# Altium integrated library Microchip Mixed Signal.IntLib: 1399 symbols (part 9 of 39)
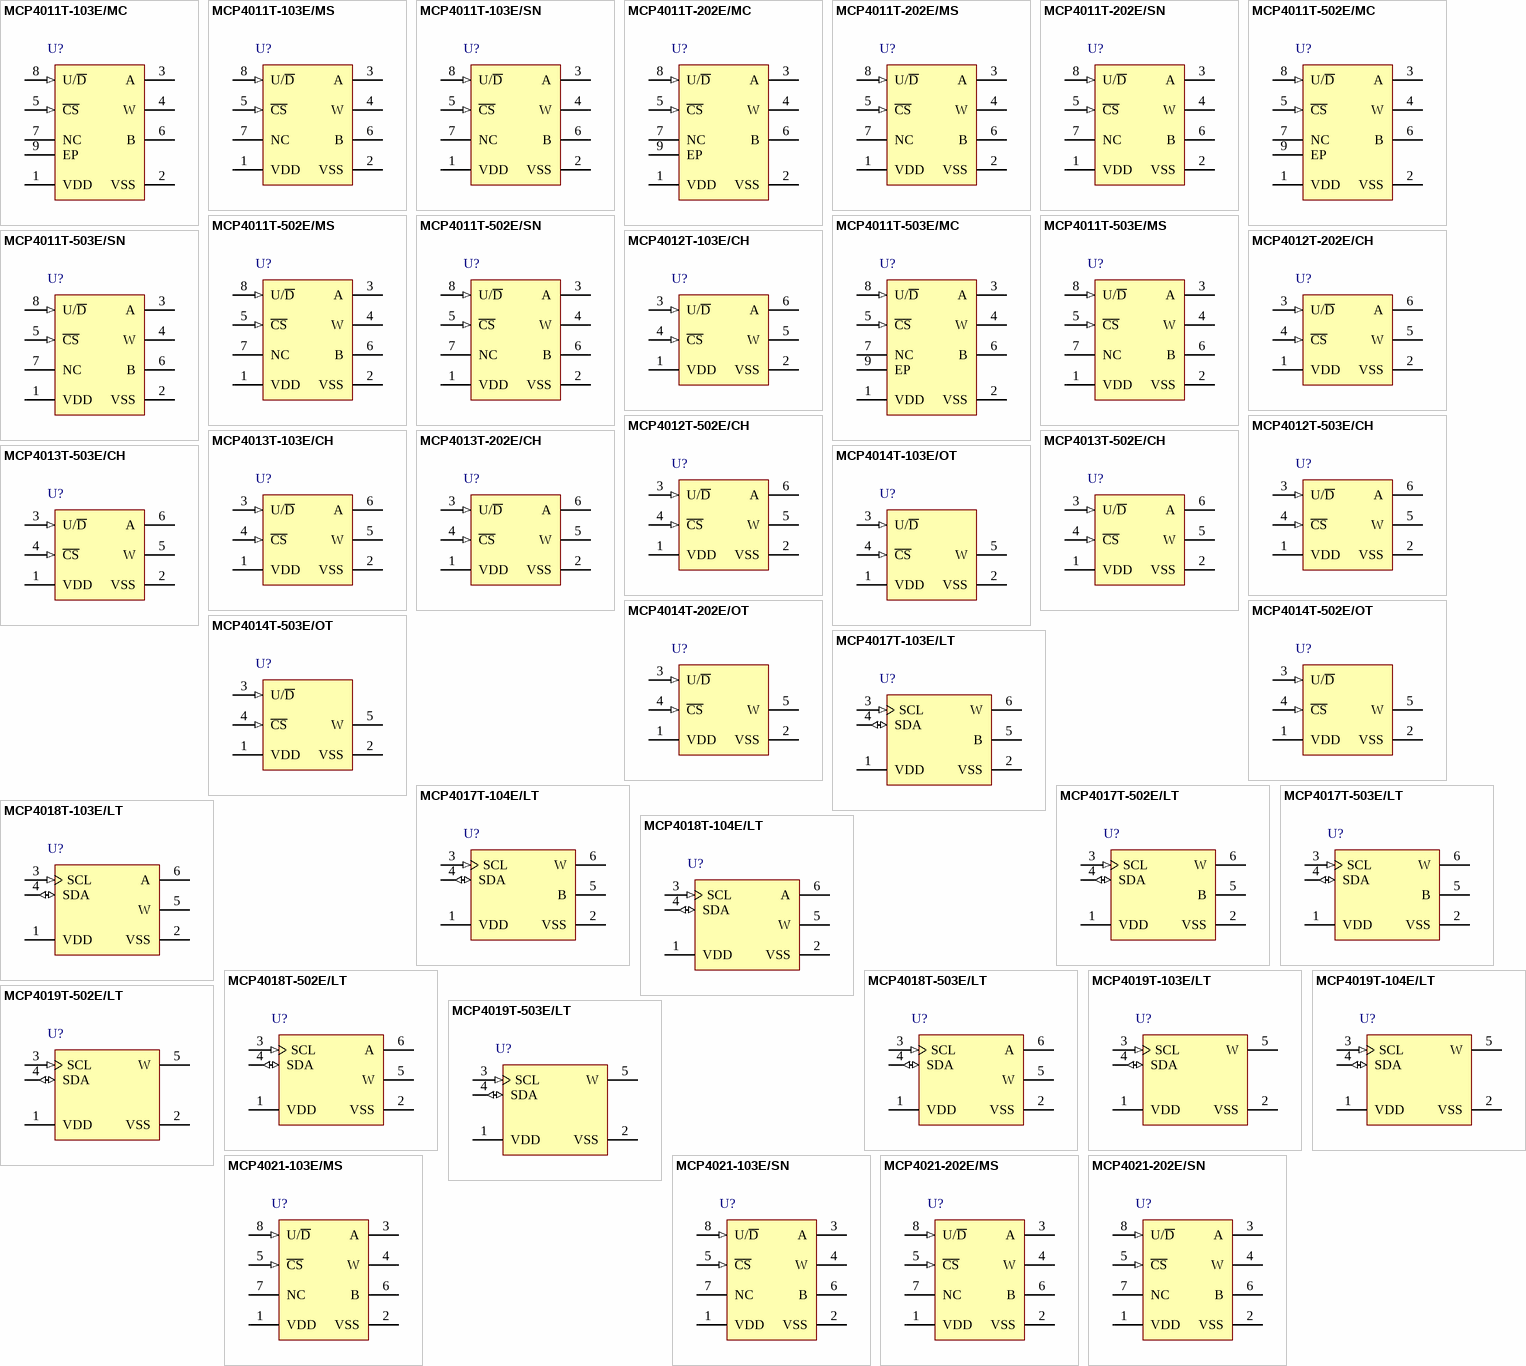
[diagram p52: symbols MCP4011T-103E/MC to MCP4021-202E/SN]

## MCP4012T-503E/CH
designator U?
Low-Cost 64-Step Volatile Digital POT, 6-Pin SOT-23, Extended Temperature, Tape and Reel; Manufacturer: Microchip; PartNumber: MCP4012T-503E/CH; DatasheetVersion: revC, Dec-2006; PackageVersion: revBB, Aug-2009; PackageReference: SOT-23-CH6; PackageDescription: 6-Lead Plastic Small Outline Transistor (CH) [SOT-23]; Supplier 1: Digi-Key; Supplier Part Number 1: MCP4012T-503E/CHTR-ND; Supplier 2: Digi-Key; Supplier Part Number 2: MCP4012T-503E/CHCT-ND; Supplier 3: Digi-Key; Supplier Part Number 3: MCP4012T-503E/CHDKR-ND; Supplier 4: Farnell; Supplier Part Number 4: 1834922; Supplier 5: Farnell; Supplier Part Number 5: 1834922RL; Supplier 6: Farnell; Supplier Part Number 6: 2133345; Supplier 7: Newark; Supplier Part Number 7: 84R6248; Supplier 8: Mouser; Supplier Part Number 8: 579-MCP4012T-503E/CH; Mounting Technology: Surface Mount; Code_IPC: SOT26A-6; ComponentLink1Description: Manufacturer URL; ComponentLink1URL: http://www.microchip.com/; ComponentLink2Description: Datasheet; ComponentLink2URL: http://ww1.microchip.com/downloads/en/DeviceDoc/21978c.pdf; ComponentLink3Description: Package Specification; ComponentLink3URL: http://www.microchip.com/stellent/groups/techpub_sg/documents/packagingspec/en012702.pdf
footprint SOT-23-CH6_N (SOT23, 6-Leads, Body 2.9x1.6mm, Pitch 0.95mm, Lead Span 2.7mm, IPC Medium Density)
footprint SOT-23-CH6_L (SOT23, 6-Leads, Body 2.9x1.6mm, Pitch 0.95mm, Lead Span 2.7mm, IPC High Density)
footprint SOT-23-CH6_M (SOT23, 6-Leads, Body 2.9x1.6mm, Pitch 0.95mm, Lead Span 2.7mm, IPC Low Density)
pins: 1 VDD (power), 2 VSS (power), 3 U/~{D} (in), 4 ~{CS} (in), 5 W, 6 A

## MCP4013T-103E/CH
designator U?
Low-Cost 64-Step Volatile Digital POT, 6-Pin SOT-23, Extended Temperature, Tape and Reel; Manufacturer: Microchip; PartNumber: MCP4013T-103E/CH; DatasheetVersion: revC, Dec-2006; PackageVersion: revBB, Aug-2009; PackageReference: SOT-23-CH6; PackageDescription: 6-Lead Plastic Small Outline Transistor (CH) [SOT-23]; Supplier 1: Digi-Key; Supplier Part Number 1: MCP4013T-103E/CHTR-ND; Supplier 2: Digi-Key; Supplier Part Number 2: MCP4013T-103E/CHCT-ND; Supplier 3: Digi-Key; Supplier Part Number 3: MCP4013T-103E/CHDKR-ND; Supplier 4: Farnell; Supplier Part Number 4: 1834923; Supplier 5: Farnell; Supplier Part Number 5: 1834923RL; Supplier 6: Newark; Supplier Part Number 6: 84R6249; Supplier 7: Mouser; Supplier Part Number 7: 579-MCP4013T-103E/CH; Mounting Technology: Surface Mount; Code_IPC: SOT26A-6; ComponentLink1Description: Manufacturer URL; ComponentLink1URL: http://www.microchip.com/; ComponentLink2Description: Datasheet; ComponentLink2URL: http://ww1.microchip.com/downloads/en/DeviceDoc/21978c.pdf; ComponentLink3Description: Package Specification; ComponentLink3URL: http://www.microchip.com/stellent/groups/techpub_sg/documents/packagingspec/en012702.pdf
footprint SOT-23-CH6_N (SOT23, 6-Leads, Body 2.9x1.6mm, Pitch 0.95mm, Lead Span 2.7mm, IPC Medium Density)
footprint SOT-23-CH6_L (SOT23, 6-Leads, Body 2.9x1.6mm, Pitch 0.95mm, Lead Span 2.7mm, IPC High Density)
footprint SOT-23-CH6_M (SOT23, 6-Leads, Body 2.9x1.6mm, Pitch 0.95mm, Lead Span 2.7mm, IPC Low Density)
pins: 1 VDD (power), 2 VSS (power), 3 U/~{D} (in), 4 ~{CS} (in), 5 W, 6 A

## MCP4013T-202E/CH
designator U?
Low-Cost 64-Step Volatile Digital POT, 6-Pin SOT-23, Extended Temperature, Tape and Reel; Manufacturer: Microchip; PartNumber: MCP4013T-202E/CH; DatasheetVersion: revC, Dec-2006; PackageVersion: revBB, Aug-2009; PackageReference: SOT-23-CH6; PackageDescription: 6-Lead Plastic Small Outline Transistor (CH) [SOT-23]; Supplier 1: Digi-Key; Supplier Part Number 1: MCP4013T-202E/CHTR-ND; Supplier 2: Digi-Key; Supplier Part Number 2: MCP4013T-202E/CHCT-ND; Supplier 3: Digi-Key; Supplier Part Number 3: MCP4013T-202E/CHDKR-ND; Supplier 4: Farnell; Supplier Part Number 4: 1834924; Supplier 5: Farnell; Supplier Part Number 5: 1834924RL; Supplier 6: Newark; Supplier Part Number 6: 84R6250; Supplier 7: Mouser; Supplier Part Number 7: 579-MCP4013T-202E/CH; Mounting Technology: Surface Mount; Code_IPC: SOT26A-6; ComponentLink1Description: Manufacturer URL; ComponentLink1URL: http://www.microchip.com/; ComponentLink2Description: Datasheet; ComponentLink2URL: http://ww1.microchip.com/downloads/en/DeviceDoc/21978c.pdf; ComponentLink3Description: Package Specification; ComponentLink3URL: http://www.microchip.com/stellent/groups/techpub_sg/documents/packagingspec/en012702.pdf
footprint SOT-23-CH6_N (SOT23, 6-Leads, Body 2.9x1.6mm, Pitch 0.95mm, Lead Span 2.7mm, IPC Medium Density)
footprint SOT-23-CH6_L (SOT23, 6-Leads, Body 2.9x1.6mm, Pitch 0.95mm, Lead Span 2.7mm, IPC High Density)
footprint SOT-23-CH6_M (SOT23, 6-Leads, Body 2.9x1.6mm, Pitch 0.95mm, Lead Span 2.7mm, IPC Low Density)
pins: 1 VDD (power), 2 VSS (power), 3 U/~{D} (in), 4 ~{CS} (in), 5 W, 6 A

## MCP4013T-502E/CH
designator U?
Low-Cost 64-Step Volatile Digital POT, 6-Pin SOT-23, Extended Temperature, Tape and Reel; Manufacturer: Microchip; PartNumber: MCP4013T-502E/CH; DatasheetVersion: revC, Dec-2006; PackageVersion: revBB, Aug-2009; PackageReference: SOT-23-CH6; PackageDescription: 6-Lead Plastic Small Outline Transistor (CH) [SOT-23]; Supplier 1: Digi-Key; Supplier Part Number 1: MCP4013T-502E/CHTR-ND; Supplier 2: Digi-Key; Supplier Part Number 2: MCP4013T-502E/CHCT-ND; Supplier 3: Digi-Key; Supplier Part Number 3: MCP4013T-502E/CHDKR-ND; Supplier 4: Farnell; Supplier Part Number 4: 1834925; Supplier 5: Farnell; Supplier Part Number 5: 1834925RL; Supplier 6: Farnell; Supplier Part Number 6: 2134852; Supplier 7: Newark; Supplier Part Number 7: 84R6251; Supplier 8: Mouser; Supplier Part Number 8: 579-MCP4013T-502E/CH; Mounting Technology: Surface Mount; Code_IPC: SOT26A-6; ComponentLink1Description: Manufacturer URL; ComponentLink1URL: http://www.microchip.com/; ComponentLink2Description: Datasheet; ComponentLink2URL: http://ww1.microchip.com/downloads/en/DeviceDoc/21978c.pdf; ComponentLink3Description: Package Specification; ComponentLink3URL: http://www.microchip.com/stellent/groups/techpub_sg/documents/packagingspec/en012702.pdf
footprint SOT-23-CH6_N (SOT23, 6-Leads, Body 2.9x1.6mm, Pitch 0.95mm, Lead Span 2.7mm, IPC Medium Density)
footprint SOT-23-CH6_L (SOT23, 6-Leads, Body 2.9x1.6mm, Pitch 0.95mm, Lead Span 2.7mm, IPC High Density)
footprint SOT-23-CH6_M (SOT23, 6-Leads, Body 2.9x1.6mm, Pitch 0.95mm, Lead Span 2.7mm, IPC Low Density)
pins: 1 VDD (power), 2 VSS (power), 3 U/~{D} (in), 4 ~{CS} (in), 5 W, 6 A

## MCP4013T-503E/CH
designator U?
Low-Cost 64-Step Volatile Digital POT, 6-Pin SOT-23, Extended Temperature, Tape and Reel; Manufacturer: Microchip; PartNumber: MCP4013T-503E/CH; DatasheetVersion: revC, Dec-2006; PackageVersion: revBB, Aug-2009; PackageReference: SOT-23-CH6; PackageDescription: 6-Lead Plastic Small Outline Transistor (CH) [SOT-23]; Supplier 1: Digi-Key; Supplier Part Number 1: MCP4013T-503E/CHTR-ND; Supplier 2: Digi-Key; Supplier Part Number 2: MCP4013T-503E/CHCT-ND; Supplier 3: Digi-Key; Supplier Part Number 3: MCP4013T-503E/CHDKR-ND; Supplier 4: Farnell; Supplier Part Number 4: 1834926; Supplier 5: Farnell; Supplier Part Number 5: 1834926RL; Supplier 6: Newark; Supplier Part Number 6: 84R6252; Supplier 7: Mouser; Supplier Part Number 7: 579-MCP4013T-503E/CH; Mounting Technology: Surface Mount; Code_IPC: SOT26A-6; ComponentLink1Description: Manufacturer URL; ComponentLink1URL: http://www.microchip.com/; ComponentLink2Description: Datasheet; ComponentLink2URL: http://ww1.microchip.com/downloads/en/DeviceDoc/21978c.pdf; ComponentLink3Description: Package Specification; ComponentLink3URL: http://www.microchip.com/stellent/groups/techpub_sg/documents/packagingspec/en012702.pdf
footprint SOT-23-CH6_N (SOT23, 6-Leads, Body 2.9x1.6mm, Pitch 0.95mm, Lead Span 2.7mm, IPC Medium Density)
footprint SOT-23-CH6_L (SOT23, 6-Leads, Body 2.9x1.6mm, Pitch 0.95mm, Lead Span 2.7mm, IPC High Density)
footprint SOT-23-CH6_M (SOT23, 6-Leads, Body 2.9x1.6mm, Pitch 0.95mm, Lead Span 2.7mm, IPC Low Density)
pins: 1 VDD (power), 2 VSS (power), 3 U/~{D} (in), 4 ~{CS} (in), 5 W, 6 A

## MCP4014T-103E/OT
designator U?
Low-Cost 64-Step Volatile Digital POT, 5-Pin SOT-23, Extended Temperature, Tape and Reel; Manufacturer: Microchip; PartNumber: MCP4014T-103E/OT; DatasheetVersion: revC, Dec-2006; PackageVersion: revBB, Aug-2009; PackageReference: SOT-23-OT5; PackageDescription: 5-Lead Plastic Small Outline Transistor (OT) [SOT-23]; Supplier 1: Digi-Key; Supplier Part Number 1: MCP4014T-103E/OTTR-ND; Supplier 2: Digi-Key; Supplier Part Number 2: MCP4014T-103E/OTCT-ND; Supplier 3: Digi-Key; Supplier Part Number 3: MCP4014T-103E/OTDKR-ND; Supplier 4: Farnell; Supplier Part Number 4: 1834928RL; Supplier 5: Farnell; Supplier Part Number 5: 1834928; Supplier 6: Newark; Supplier Part Number 6: 84R6253; Supplier 7: Mouser; Supplier Part Number 7: 579-MCP4014T-103E/OT; Mounting Technology: Surface Mount; Code_IPC: SOT23-5; ComponentLink1Description: Manufacturer URL; ComponentLink1URL: http://www.microchip.com/; ComponentLink2Description: Datasheet; ComponentLink2URL: http://ww1.microchip.com/downloads/en/DeviceDoc/21978c.pdf; ComponentLink3Description: Package Specification; ComponentLink3URL: http://www.microchip.com/stellent/groups/techpub_sg/documents/packagingspec/en012702.pdf
footprint SOT-23-OT5_N (SOT23, 5-Leads, Body 2.9x1.6mm, Pitch 0.95mm, Lead Span 2.7mm, IPC Medium Density)
footprint SOT-23-OT5_L (SOT23, 5-Leads, Body 2.9x1.6mm, Pitch 0.95mm, Lead Span 2.7mm, IPC High Density)
footprint SOT-23-OT5_M (SOT23, 5-Leads, Body 2.9x1.6mm, Pitch 0.95mm, Lead Span 2.7mm, IPC Low Density)
pins: 1 VDD (power), 2 VSS (power), 3 U/~{D} (in), 4 ~{CS} (in), 5 W

## MCP4014T-202E/OT
designator U?
Low-Cost 64-Step Volatile Digital POT, 5-Pin SOT-23, Extended Temperature, Tape and Reel; Manufacturer: Microchip; PartNumber: MCP4014T-202E/OT; DatasheetVersion: revC, Dec-2006; PackageVersion: revBB, Aug-2009; PackageReference: SOT-23-OT5; PackageDescription: 5-Lead Plastic Small Outline Transistor (OT) [SOT-23]; Supplier 1: Digi-Key; Supplier Part Number 1: MCP4014T-202E/OTTR-ND; Supplier 2: Digi-Key; Supplier Part Number 2: MCP4014T-202E/OTCT-ND; Supplier 3: Digi-Key; Supplier Part Number 3: MCP4014T-202E/OTDKR-ND; Supplier 4: Farnell; Supplier Part Number 4: 1834929RL; Supplier 5: Farnell; Supplier Part Number 5: 1834929; Supplier 6: Newark; Supplier Part Number 6: 56K7036; Supplier 7: Mouser; Supplier Part Number 7: 579-MCP4014T-202E/OT; Mounting Technology: Surface Mount; Code_IPC: SOT23-5; ComponentLink1Description: Manufacturer URL; ComponentLink1URL: http://www.microchip.com/; ComponentLink2Description: Datasheet; ComponentLink2URL: http://ww1.microchip.com/downloads/en/DeviceDoc/21978c.pdf; ComponentLink3Description: Package Specification; ComponentLink3URL: http://www.microchip.com/stellent/groups/techpub_sg/documents/packagingspec/en012702.pdf
footprint SOT-23-OT5_N (SOT23, 5-Leads, Body 2.9x1.6mm, Pitch 0.95mm, Lead Span 2.7mm, IPC Medium Density)
footprint SOT-23-OT5_L (SOT23, 5-Leads, Body 2.9x1.6mm, Pitch 0.95mm, Lead Span 2.7mm, IPC High Density)
footprint SOT-23-OT5_M (SOT23, 5-Leads, Body 2.9x1.6mm, Pitch 0.95mm, Lead Span 2.7mm, IPC Low Density)
pins: 1 VDD (power), 2 VSS (power), 3 U/~{D} (in), 4 ~{CS} (in), 5 W

## MCP4014T-502E/OT
designator U?
Low-Cost 64-Step Volatile Digital POT, 5-Pin SOT-23, Extended Temperature, Tape and Reel; Manufacturer: Microchip; PartNumber: MCP4014T-502E/OT; DatasheetVersion: revC, Dec-2006; PackageVersion: revBB, Aug-2009; PackageReference: SOT-23-OT5; PackageDescription: 5-Lead Plastic Small Outline Transistor (OT) [SOT-23]; Supplier 1: Digi-Key; Supplier Part Number 1: MCP4014T-502E/OTTR-ND; Supplier 2: Digi-Key; Supplier Part Number 2: MCP4014T-502E/OTCT-ND; Supplier 3: Digi-Key; Supplier Part Number 3: MCP4014T-502E/OTDKR-ND; Supplier 4: Farnell; Supplier Part Number 4: 1834930; Supplier 5: Farnell; Supplier Part Number 5: 1834930RL; Supplier 6: Newark; Supplier Part Number 6: 84R6254; Supplier 7: Mouser; Supplier Part Number 7: 579-MCP4014T-502E/OT; Mounting Technology: Surface Mount; Code_IPC: SOT23-5; ComponentLink1Description: Manufacturer URL; ComponentLink1URL: http://www.microchip.com/; ComponentLink2Description: Datasheet; ComponentLink2URL: http://ww1.microchip.com/downloads/en/DeviceDoc/21978c.pdf; ComponentLink3Description: Package Specification; ComponentLink3URL: http://www.microchip.com/stellent/groups/techpub_sg/documents/packagingspec/en012702.pdf
footprint SOT-23-OT5_N (SOT23, 5-Leads, Body 2.9x1.6mm, Pitch 0.95mm, Lead Span 2.7mm, IPC Medium Density)
footprint SOT-23-OT5_L (SOT23, 5-Leads, Body 2.9x1.6mm, Pitch 0.95mm, Lead Span 2.7mm, IPC High Density)
footprint SOT-23-OT5_M (SOT23, 5-Leads, Body 2.9x1.6mm, Pitch 0.95mm, Lead Span 2.7mm, IPC Low Density)
pins: 1 VDD (power), 2 VSS (power), 3 U/~{D} (in), 4 ~{CS} (in), 5 W

## MCP4014T-503E/OT
designator U?
Low-Cost 64-Step Volatile Digital POT, 5-Pin SOT-23, Extended Temperature, Tape and Reel; Manufacturer: Microchip; PartNumber: MCP4014T-503E/OT; DatasheetVersion: revC, Dec-2006; PackageVersion: revBB, Aug-2009; PackageReference: SOT-23-OT5; PackageDescription: 5-Lead Plastic Small Outline Transistor (OT) [SOT-23]; Supplier 1: Digi-Key; Supplier Part Number 1: MCP4014T-503E/OTTR-ND; Supplier 2: Digi-Key; Supplier Part Number 2: MCP4014T-503E/OTCT-ND; Supplier 3: Digi-Key; Supplier Part Number 3: MCP4014T-503E/OTDKR-ND; Supplier 4: Farnell; Supplier Part Number 4: 1834931RL; Supplier 5: Farnell; Supplier Part Number 5: 1834931; Supplier 6: Newark; Supplier Part Number 6: 84R6255; Supplier 7: Mouser; Supplier Part Number 7: 579-MCP4014T-503E/OT; Mounting Technology: Surface Mount; Code_IPC: SOT23-5; ComponentLink1Description: Manufacturer URL; ComponentLink1URL: http://www.microchip.com/; ComponentLink2Description: Datasheet; ComponentLink2URL: http://ww1.microchip.com/downloads/en/DeviceDoc/21978c.pdf; ComponentLink3Description: Package Specification; ComponentLink3URL: http://www.microchip.com/stellent/groups/techpub_sg/documents/packagingspec/en012702.pdf
footprint SOT-23-OT5_N (SOT23, 5-Leads, Body 2.9x1.6mm, Pitch 0.95mm, Lead Span 2.7mm, IPC Medium Density)
footprint SOT-23-OT5_L (SOT23, 5-Leads, Body 2.9x1.6mm, Pitch 0.95mm, Lead Span 2.7mm, IPC High Density)
footprint SOT-23-OT5_M (SOT23, 5-Leads, Body 2.9x1.6mm, Pitch 0.95mm, Lead Span 2.7mm, IPC Low Density)
pins: 1 VDD (power), 2 VSS (power), 3 U/~{D} (in), 4 ~{CS} (in), 5 W

## MCP4017T-103E/LT
designator U?
7-Bit Single I2C Digital POT with Volatile Memory, 6-pin SC70, Extended Temperature, Tape and Reel; Manufacturer: Microchip; PartNumber: MCP4017T-103E/LT; DatasheetVersion: revA, Mar-2009; PackageVersion: revBB, Aug-2009; PackageReference: SC70-LT6; PackageDescription: 6-Lead Plastic Small Outline Transistor (LT) [SC70]; Supplier 1: Digi-Key; Supplier Part Number 1: MCP4017T-103E/LTTR-ND; Supplier 2: Digi-Key; Supplier Part Number 2: MCP4017T-103E/LTCT-ND; Supplier 3: Digi-Key; Supplier Part Number 3: MCP4017T-103E/LTDKR-ND; Supplier 4: Farnell; Supplier Part Number 4: 1715846; Supplier 5: Newark; Supplier Part Number 5: 25R4724; Supplier 6: Mouser; Supplier Part Number 6: 579-MCP4017T103E/LT; Mounting Technology: Surface Mount; ComponentLink1Description: Manufacturer URL; ComponentLink1URL: http://www.microchip.com/; ComponentLink2Description: Datasheet; ComponentLink2URL: http://ww1.microchip.com/downloads/en/DeviceDoc/22147a.pdf; ComponentLink3Description: Package Specification; ComponentLink3URL: http://www.microchip.com/stellent/groups/techpub_sg/documents/packagingspec/en012702.pdf
footprint SC70-LT6_N (SOT363, 6-Leads, Body 2x1.3mm, Pitch 0.65mm, Lead Span 2.1mm, IPC Medium Density)
footprint SC70-LT6_L (SOT363, 6-Leads, Body 2x1.3mm, Pitch 0.65mm, Lead Span 2.1mm, IPC High Density)
footprint SC70-LT6_M (SOT363, 6-Leads, Body 2x1.3mm, Pitch 0.65mm, Lead Span 2.1mm, IPC Low Density)
pins: 1 VDD (power), 2 VSS (power), 3 SCL (in), 4 SDA (io), 5 B, 6 W

## MCP4017T-104E/LT
designator U?
7-Bit Single I2C Digital POT with Volatile Memory, 6-pin SC70, Extended Temperature, Tape and Reel; Manufacturer: Microchip; PartNumber: MCP4017T-104E/LT; DatasheetVersion: revA, Mar-2009; PackageVersion: revBB, Aug-2009; PackageReference: SC70-LT6; PackageDescription: 6-Lead Plastic Small Outline Transistor (LT) [SC70]; Supplier 1: Digi-Key; Supplier Part Number 1: MCP4017T-104E/LTTR-ND; Supplier 2: Digi-Key; Supplier Part Number 2: MCP4017T-104E/LTCT-ND; Supplier 3: Digi-Key; Supplier Part Number 3: MCP4017T-104E/LTDKR-ND; Supplier 4: Farnell; Supplier Part Number 4: 1825016; Supplier 5: Newark; Supplier Part Number 5: 08R1798; Supplier 6: Mouser; Supplier Part Number 6: 579-MCP4017T104E/LT; Mounting Technology: Surface Mount; ComponentLink1Description: Manufacturer URL; ComponentLink1URL: http://www.microchip.com/; ComponentLink2Description: Datasheet; ComponentLink2URL: http://ww1.microchip.com/downloads/en/DeviceDoc/22147a.pdf; ComponentLink3Description: Package Specification; ComponentLink3URL: http://www.microchip.com/stellent/groups/techpub_sg/documents/packagingspec/en012702.pdf
footprint SC70-LT6_N (SOT363, 6-Leads, Body 2x1.3mm, Pitch 0.65mm, Lead Span 2.1mm, IPC Medium Density)
footprint SC70-LT6_L (SOT363, 6-Leads, Body 2x1.3mm, Pitch 0.65mm, Lead Span 2.1mm, IPC High Density)
footprint SC70-LT6_M (SOT363, 6-Leads, Body 2x1.3mm, Pitch 0.65mm, Lead Span 2.1mm, IPC Low Density)
pins: 1 VDD (power), 2 VSS (power), 3 SCL (in), 4 SDA (io), 5 B, 6 W

## MCP4017T-502E/LT
designator U?
7-Bit Single I2C Digital POT with Volatile Memory, 6-pin SC70, Extended Temperature, Tape and Reel; Manufacturer: Microchip; PartNumber: MCP4017T-502E/LT; DatasheetVersion: revA, Mar-2009; PackageVersion: revBB, Aug-2009; PackageReference: SC70-LT6; PackageDescription: 6-Lead Plastic Small Outline Transistor (LT) [SC70]; Supplier 1: Digi-Key; Supplier Part Number 1: MCP4017T-502E/LTTR-ND; Supplier 2: Digi-Key; Supplier Part Number 2: MCP4017T-502E/LTCT-ND; Supplier 3: Digi-Key; Supplier Part Number 3: MCP4017T-502E/LTDKR-ND; Supplier 4: Farnell; Supplier Part Number 4: 1715848; Supplier 5: Newark; Supplier Part Number 5: 25R4725; Supplier 6: Mouser; Supplier Part Number 6: 579-MCP4017T502E/LT; Mounting Technology: Surface Mount; ComponentLink1Description: Manufacturer URL; ComponentLink1URL: http://www.microchip.com/; ComponentLink2Description: Datasheet; ComponentLink2URL: http://ww1.microchip.com/downloads/en/DeviceDoc/22147a.pdf; ComponentLink3Description: Package Specification; ComponentLink3URL: http://www.microchip.com/stellent/groups/techpub_sg/documents/packagingspec/en012702.pdf
footprint SC70-LT6_N (SOT363, 6-Leads, Body 2x1.3mm, Pitch 0.65mm, Lead Span 2.1mm, IPC Medium Density)
footprint SC70-LT6_L (SOT363, 6-Leads, Body 2x1.3mm, Pitch 0.65mm, Lead Span 2.1mm, IPC High Density)
footprint SC70-LT6_M (SOT363, 6-Leads, Body 2x1.3mm, Pitch 0.65mm, Lead Span 2.1mm, IPC Low Density)
pins: 1 VDD (power), 2 VSS (power), 3 SCL (in), 4 SDA (io), 5 B, 6 W

## MCP4017T-503E/LT
designator U?
7-Bit Single I2C Digital POT with Volatile Memory, 6-pin SC70, Extended Temperature, Tape and Reel; Manufacturer: Microchip; PartNumber: MCP4017T-503E/LT; DatasheetVersion: revA, Mar-2009; PackageVersion: revBB, Aug-2009; PackageReference: SC70-LT6; PackageDescription: 6-Lead Plastic Small Outline Transistor (LT) [SC70]; Supplier 1: Digi-Key; Supplier Part Number 1: MCP4017T-503E/LTTR-ND; Supplier 2: Digi-Key; Supplier Part Number 2: MCP4017T-503E/LTCT-ND; Supplier 3: Digi-Key; Supplier Part Number 3: MCP4017T-503E/LTDKR-ND; Supplier 4: Farnell; Supplier Part Number 4: 1825017; Supplier 5: Newark; Supplier Part Number 5: 65T6676; Supplier 6: Mouser; Supplier Part Number 6: 579-MCP4017T503E/LT; Mounting Technology: Surface Mount; ComponentLink1Description: Manufacturer URL; ComponentLink1URL: http://www.microchip.com/; ComponentLink2Description: Datasheet; ComponentLink2URL: http://ww1.microchip.com/downloads/en/DeviceDoc/22147a.pdf; ComponentLink3Description: Package Specification; ComponentLink3URL: http://www.microchip.com/stellent/groups/techpub_sg/documents/packagingspec/en012702.pdf
footprint SC70-LT6_N (SOT363, 6-Leads, Body 2x1.3mm, Pitch 0.65mm, Lead Span 2.1mm, IPC Medium Density)
footprint SC70-LT6_L (SOT363, 6-Leads, Body 2x1.3mm, Pitch 0.65mm, Lead Span 2.1mm, IPC High Density)
footprint SC70-LT6_M (SOT363, 6-Leads, Body 2x1.3mm, Pitch 0.65mm, Lead Span 2.1mm, IPC Low Density)
pins: 1 VDD (power), 2 VSS (power), 3 SCL (in), 4 SDA (io), 5 B, 6 W

## MCP4018T-103E/LT
designator U?
7-Bit Single I2C Digital POT with Volatile Memory, 6-pin SC70, Extended Temperature, Tape and Reel; Manufacturer: Microchip; PartNumber: MCP4018T-103E/LT; DatasheetVersion: revA, Mar-2009; PackageVersion: revBB, Aug-2009; PackageReference: SC70-LT6; PackageDescription: 6-Lead Plastic Small Outline Transistor (LT) [SC70]; Supplier 1: Digi-Key; Supplier Part Number 1: MCP4018T-103E/LTTR-ND; Supplier 2: Digi-Key; Supplier Part Number 2: MCP4018T-103E/LTCT-ND; Supplier 3: Digi-Key; Supplier Part Number 3: MCP4018T-103E/LTDKR-ND; Supplier 4: Farnell; Supplier Part Number 4: 1715849; Supplier 5: Newark; Supplier Part Number 5: 25R4726; Supplier 6: Newark; Supplier Part Number 6: 08R1801; Supplier 7: Mouser; Supplier Part Number 7: 579-MCP4018T103E/LT; Mounting Technology: Surface Mount; ComponentLink1Description: Manufacturer URL; ComponentLink1URL: http://www.microchip.com/; ComponentLink2Description: Datasheet; ComponentLink2URL: http://ww1.microchip.com/downloads/en/DeviceDoc/22147a.pdf; ComponentLink3Description: Package Specification; ComponentLink3URL: http://www.microchip.com/stellent/groups/techpub_sg/documents/packagingspec/en012702.pdf
footprint SC70-LT6_N (SOT363, 6-Leads, Body 2x1.3mm, Pitch 0.65mm, Lead Span 2.1mm, IPC Medium Density)
footprint SC70-LT6_L (SOT363, 6-Leads, Body 2x1.3mm, Pitch 0.65mm, Lead Span 2.1mm, IPC High Density)
footprint SC70-LT6_M (SOT363, 6-Leads, Body 2x1.3mm, Pitch 0.65mm, Lead Span 2.1mm, IPC Low Density)
pins: 1 VDD (power), 2 VSS (power), 3 SCL (in), 4 SDA (io), 5 W, 6 A

## MCP4018T-104E/LT
designator U?
7-Bit Single I2C Digital POT with Volatile Memory, 6-pin SC70, Extended Temperature, Tape and Reel; Manufacturer: Microchip; PartNumber: MCP4018T-104E/LT; DatasheetVersion: revA, Mar-2009; PackageVersion: revBB, Aug-2009; PackageReference: SC70-LT6; PackageDescription: 6-Lead Plastic Small Outline Transistor (LT) [SC70]; Supplier 1: Digi-Key; Supplier Part Number 1: MCP4018T-104E/LTTR-ND; Supplier 2: Digi-Key; Supplier Part Number 2: MCP4018T-104E/LTCT-ND; Supplier 3: Digi-Key; Supplier Part Number 3: MCP4018T-104E/LTDKR-ND; Supplier 4: Farnell; Supplier Part Number 4: 1825018; Supplier 5: Newark; Supplier Part Number 5: 08R1802; Supplier 6: Mouser; Supplier Part Number 6: 579-MCP4018T104E/LT; Mounting Technology: Surface Mount; ComponentLink1Description: Manufacturer URL; ComponentLink1URL: http://www.microchip.com/; ComponentLink2Description: Datasheet; ComponentLink2URL: http://ww1.microchip.com/downloads/en/DeviceDoc/22147a.pdf; ComponentLink3Description: Package Specification; ComponentLink3URL: http://www.microchip.com/stellent/groups/techpub_sg/documents/packagingspec/en012702.pdf
footprint SC70-LT6_N (SOT363, 6-Leads, Body 2x1.3mm, Pitch 0.65mm, Lead Span 2.1mm, IPC Medium Density)
footprint SC70-LT6_L (SOT363, 6-Leads, Body 2x1.3mm, Pitch 0.65mm, Lead Span 2.1mm, IPC High Density)
footprint SC70-LT6_M (SOT363, 6-Leads, Body 2x1.3mm, Pitch 0.65mm, Lead Span 2.1mm, IPC Low Density)
pins: 1 VDD (power), 2 VSS (power), 3 SCL (in), 4 SDA (io), 5 W, 6 A

## MCP4018T-502E/LT
designator U?
7-Bit Single I2C Digital POT with Volatile Memory, 6-pin SC70, Extended Temperature, Tape and Reel; Manufacturer: Microchip; PartNumber: MCP4018T-502E/LT; DatasheetVersion: revA, Mar-2009; PackageVersion: revBB, Aug-2009; PackageReference: SC70-LT6; PackageDescription: 6-Lead Plastic Small Outline Transistor (LT) [SC70]; Supplier 1: Digi-Key; Supplier Part Number 1: MCP4018T-502E/LTTR-ND; Supplier 2: Digi-Key; Supplier Part Number 2: MCP4018T-502E/LTCT-ND; Supplier 3: Digi-Key; Supplier Part Number 3: MCP4018T-502E/LTDKR-ND; Supplier 4: Farnell; Supplier Part Number 4: 1800210; Supplier 5: Newark; Supplier Part Number 5: 24R6828; Supplier 6: Mouser; Supplier Part Number 6: 579-MCP4018T502ELT; Mounting Technology: Surface Mount; ComponentLink1Description: Manufacturer URL; ComponentLink1URL: http://www.microchip.com/; ComponentLink2Description: Datasheet; ComponentLink2URL: http://ww1.microchip.com/downloads/en/DeviceDoc/22147a.pdf; ComponentLink3Description: Package Specification; ComponentLink3URL: http://www.microchip.com/stellent/groups/techpub_sg/documents/packagingspec/en012702.pdf
footprint SC70-LT6_N (SOT363, 6-Leads, Body 2x1.3mm, Pitch 0.65mm, Lead Span 2.1mm, IPC Medium Density)
footprint SC70-LT6_L (SOT363, 6-Leads, Body 2x1.3mm, Pitch 0.65mm, Lead Span 2.1mm, IPC High Density)
footprint SC70-LT6_M (SOT363, 6-Leads, Body 2x1.3mm, Pitch 0.65mm, Lead Span 2.1mm, IPC Low Density)
pins: 1 VDD (power), 2 VSS (power), 3 SCL (in), 4 SDA (io), 5 W, 6 A

## MCP4018T-503E/LT
designator U?
7-Bit Single I2C Digital POT with Volatile Memory, 6-pin SC70, Extended Temperature, Tape and Reel; Manufacturer: Microchip; PartNumber: MCP4018T-503E/LT; DatasheetVersion: revA, Mar-2009; PackageVersion: revBB, Aug-2009; PackageReference: SC70-LT6; PackageDescription: 6-Lead Plastic Small Outline Transistor (LT) [SC70]; Supplier 1: Digi-Key; Supplier Part Number 1: MCP4018T-503E/LTTR-ND; Supplier 2: Digi-Key; Supplier Part Number 2: MCP4018T-503E/LTCT-ND; Supplier 3: Digi-Key; Supplier Part Number 3: MCP4018T-503E/LTDKR-ND; Supplier 4: Farnell; Supplier Part Number 4: 1825019; Supplier 5: Newark; Supplier Part Number 5: 08R1803; Supplier 6: Mouser; Supplier Part Number 6: 579-MCP4018T503E/LT; Mounting Technology: Surface Mount; ComponentLink1Description: Manufacturer URL; ComponentLink1URL: http://www.microchip.com/; ComponentLink2Description: Datasheet; ComponentLink2URL: http://ww1.microchip.com/downloads/en/DeviceDoc/22147a.pdf; ComponentLink3Description: Package Specification; ComponentLink3URL: http://www.microchip.com/stellent/groups/techpub_sg/documents/packagingspec/en012702.pdf
footprint SC70-LT6_N (SOT363, 6-Leads, Body 2x1.3mm, Pitch 0.65mm, Lead Span 2.1mm, IPC Medium Density)
footprint SC70-LT6_L (SOT363, 6-Leads, Body 2x1.3mm, Pitch 0.65mm, Lead Span 2.1mm, IPC High Density)
footprint SC70-LT6_M (SOT363, 6-Leads, Body 2x1.3mm, Pitch 0.65mm, Lead Span 2.1mm, IPC Low Density)
pins: 1 VDD (power), 2 VSS (power), 3 SCL (in), 4 SDA (io), 5 W, 6 A

## MCP4019T-103E/LT
designator U?
7-Bit Single I2C Digital POT with Volatile Memory, 5-pin SC70, Extended Temperature, Tape and Reel; Manufacturer: Microchip; PartNumber: MCP4019T-103E/LT; DatasheetVersion: revA, Mar-2009; PackageVersion: revBB, Aug-2009; PackageReference: SC70-LT5; PackageDescription: 5-Lead Plastic Small Outline Transistor (LT) [SC70]; Supplier 1: Digi-Key; Supplier Part Number 1: MCP4019T-103E/LTTR-ND; Supplier 2: Digi-Key; Supplier Part Number 2: MCP4019T-103E/LTCT-ND; Supplier 3: Digi-Key; Supplier Part Number 3: MCP4019T-103E/LTDKR-ND; Supplier 4: Farnell; Supplier Part Number 4: 1715850; Supplier 5: Mouser; Supplier Part Number 5: 579-MCP4019T103E/LT; Mounting Technology: Surface Mount; Code_IPC: SOT353-5; ComponentLink1Description: Manufacturer URL; ComponentLink1URL: http://www.microchip.com/; ComponentLink2Description: Datasheet; ComponentLink2URL: http://ww1.microchip.com/downloads/en/DeviceDoc/22147a.pdf; ComponentLink3Description: Package Specification; ComponentLink3URL: http://www.microchip.com/stellent/groups/techpub_sg/documents/packagingspec/en012702.pdf
footprint SC70-LT5_N (SOT353, 5-Leads, Body 2x1.3mm, Pitch 0.65mm, Lead Span 2.1mm, IPC Medium Density)
footprint SC70-LT5_L (SOT353, 5-Leads, Body 2x1.3mm, Pitch 0.65mm, Lead Span 2.1mm, IPC High Density)
footprint SC70-LT5_M (SOT353, 5-Leads, Body 2x1.3mm, Pitch 0.65mm, Lead Span 2.1mm, IPC Low Density)
pins: 1 VDD (power), 2 VSS (power), 3 SCL (in), 4 SDA (io), 5 W

## MCP4019T-104E/LT
designator U?
7-Bit Single I2C Digital POT with Volatile Memory, 5-pin SC70, Extended Temperature, Tape and Reel; Manufacturer: Microchip; PartNumber: MCP4019T-104E/LT; DatasheetVersion: revA, Mar-2009; PackageVersion: revBB, Aug-2009; PackageReference: SC70-LT5; PackageDescription: 5-Lead Plastic Small Outline Transistor (LT) [SC70]; Supplier 1: Digi-Key; Supplier Part Number 1: MCP4019T-104E/LTTR-ND; Supplier 2: Digi-Key; Supplier Part Number 2: MCP4019T-104E/LTCT-ND; Supplier 3: Digi-Key; Supplier Part Number 3: MCP4019T-104E/LTDKR-ND; Supplier 4: Farnell; Supplier Part Number 4: 1825020; Supplier 5: Newark; Supplier Part Number 5: 08R1805; Supplier 6: Mouser; Supplier Part Number 6: 579-MCP4019T104E/LT; Mounting Technology: Surface Mount; Code_IPC: SOT353-5; ComponentLink1Description: Manufacturer URL; ComponentLink1URL: http://www.microchip.com/; ComponentLink2Description: Datasheet; ComponentLink2URL: http://ww1.microchip.com/downloads/en/DeviceDoc/22147a.pdf; ComponentLink3Description: Package Specification; ComponentLink3URL: http://www.microchip.com/stellent/groups/techpub_sg/documents/packagingspec/en012702.pdf
footprint SC70-LT5_N (SOT353, 5-Leads, Body 2x1.3mm, Pitch 0.65mm, Lead Span 2.1mm, IPC Medium Density)
footprint SC70-LT5_L (SOT353, 5-Leads, Body 2x1.3mm, Pitch 0.65mm, Lead Span 2.1mm, IPC High Density)
footprint SC70-LT5_M (SOT353, 5-Leads, Body 2x1.3mm, Pitch 0.65mm, Lead Span 2.1mm, IPC Low Density)
pins: 1 VDD (power), 2 VSS (power), 3 SCL (in), 4 SDA (io), 5 W

## MCP4019T-502E/LT
designator U?
7-Bit Single I2C Digital POT with Volatile Memory, 5-pin SC70, Extended Temperature, Tape and Reel; Manufacturer: Microchip; PartNumber: MCP4019T-502E/LT; DatasheetVersion: revA, Mar-2009; PackageVersion: revBB, Aug-2009; PackageReference: SC70-LT5; PackageDescription: 5-Lead Plastic Small Outline Transistor (LT) [SC70]; Supplier 1: Digi-Key; Supplier Part Number 1: MCP4019T-502E/LTTR-ND; Supplier 2: Digi-Key; Supplier Part Number 2: MCP4019T-502E/LTCT-ND; Supplier 3: Digi-Key; Supplier Part Number 3: MCP4019T-502E/LTDKR-ND; Supplier 4: Farnell; Supplier Part Number 4: 1715851; Supplier 5: Mouser; Supplier Part Number 5: 579-MCP4019T502E/LT; Mounting Technology: Surface Mount; Code_IPC: SOT353-5; ComponentLink1Description: Manufacturer URL; ComponentLink1URL: http://www.microchip.com/; ComponentLink2Description: Datasheet; ComponentLink2URL: http://ww1.microchip.com/downloads/en/DeviceDoc/22147a.pdf; ComponentLink3Description: Package Specification; ComponentLink3URL: http://www.microchip.com/stellent/groups/techpub_sg/documents/packagingspec/en012702.pdf
footprint SC70-LT5_N (SOT353, 5-Leads, Body 2x1.3mm, Pitch 0.65mm, Lead Span 2.1mm, IPC Medium Density)
footprint SC70-LT5_L (SOT353, 5-Leads, Body 2x1.3mm, Pitch 0.65mm, Lead Span 2.1mm, IPC High Density)
footprint SC70-LT5_M (SOT353, 5-Leads, Body 2x1.3mm, Pitch 0.65mm, Lead Span 2.1mm, IPC Low Density)
pins: 1 VDD (power), 2 VSS (power), 3 SCL (in), 4 SDA (io), 5 W

## MCP4019T-503E/LT
designator U?
7-Bit Single I2C Digital POT with Volatile Memory, 5-pin SC70, Extended Temperature, Tape and Reel; Manufacturer: Microchip; PartNumber: MCP4019T-503E/LT; DatasheetVersion: revA, Mar-2009; PackageVersion: revBB, Aug-2009; PackageReference: SC70-LT5; PackageDescription: 5-Lead Plastic Small Outline Transistor (LT) [SC70]; Supplier 1: Digi-Key; Supplier Part Number 1: MCP4019T-503E/LTTR-ND; Supplier 2: Digi-Key; Supplier Part Number 2: MCP4019T-503E/LTCT-ND; Supplier 3: Digi-Key; Supplier Part Number 3: MCP4019T-503E/LTDKR-ND; Supplier 4: Farnell; Supplier Part Number 4: 1825022; Supplier 5: Newark; Supplier Part Number 5: 08R1807; Supplier 6: Mouser; Supplier Part Number 6: 579-MCP4019T503E/LT; Mounting Technology: Surface Mount; Code_IPC: SOT353-5; ComponentLink1Description: Manufacturer URL; ComponentLink1URL: http://www.microchip.com/; ComponentLink2Description: Datasheet; ComponentLink2URL: http://ww1.microchip.com/downloads/en/DeviceDoc/22147a.pdf; ComponentLink3Description: Package Specification; ComponentLink3URL: http://www.microchip.com/stellent/groups/techpub_sg/documents/packagingspec/en012702.pdf
footprint SC70-LT5_N (SOT353, 5-Leads, Body 2x1.3mm, Pitch 0.65mm, Lead Span 2.1mm, IPC Medium Density)
footprint SC70-LT5_L (SOT353, 5-Leads, Body 2x1.3mm, Pitch 0.65mm, Lead Span 2.1mm, IPC High Density)
footprint SC70-LT5_M (SOT353, 5-Leads, Body 2x1.3mm, Pitch 0.65mm, Lead Span 2.1mm, IPC Low Density)
pins: 1 VDD (power), 2 VSS (power), 3 SCL (in), 4 SDA (io), 5 W

## MCP4021-103E/MS
designator U?
Low-Cost NV Digital POT with WiperLock Technology, 8-Pin MSOP, Extended Temperature; Manufacturer: Microchip; PartNumber: MCP4021-103E/MS; DatasheetVersion: revE, Dec-2006; PackageVersion: revBB, Aug-2009; PackageReference: MSOP-MS8; PackageDescription: 8-Lead Plastic Micro Small Outline Package (MS) [MSOP]; Supplier 1: Digi-Key; Supplier Part Number 1: MCP4021-103E/MS-ND; Supplier 2: Farnell; Supplier Part Number 2: 1840697; Supplier 3: Newark; Supplier Part Number 3: 71J5269; Supplier 4: Mouser; Supplier Part Number 4: 579-MCP4021-103E/MS; Mounting Technology: Surface Mount; ComponentLink1Description: Manufacturer URL; ComponentLink1URL: http://www.microchip.com/; ComponentLink2Description: Datasheet; ComponentLink2URL: http://ww1.microchip.com/downloads/en/DeviceDoc/21945e.pdf; ComponentLink3Description: Package Specification; ComponentLink3URL: http://www.microchip.com/stellent/groups/techpub_sg/documents/packagingspec/en012702.pdf
footprint MSOP-MS8_N (TSOP, 8-Leads, Body 3x3mm, Pitch 0.65mm, IPC Medium Density)
footprint MSOP-MS8_L (TSOP, 8-Leads, Body 3x3mm, Pitch 0.65mm, IPC High Density)
footprint MSOP-MS8_M (TSOP, 8-Leads, Body 3x3mm, Pitch 0.65mm, IPC Low Density)
pins: 1 VDD (power), 2 VSS (power), 3 A, 4 W, 5 ~{CS} (in), 6 B, 7 NC, 8 U/~{D} (in)

## MCP4021-103E/SN
designator U?
Low-Cost NV Digital POT with WiperLock Technology, 8-Pin SOIC 150mil, Extended Temperature; Manufacturer: Microchip; PartNumber: MCP4021-103E/SN; DatasheetVersion: revE, Dec-2006; PackageVersion: revBB, Aug-2009; PackageReference: SOIC-SN8; PackageDescription: 8-Lead Plastic Small Outline (SN) - Narrow, 3.90mm Body [SOIC]; Supplier 1: Digi-Key; Supplier Part Number 1: MCP4021-103E/SN-ND; Supplier 2: Farnell; Supplier Part Number 2: 1332105; Supplier 3: Newark; Supplier Part Number 3: 34M7454; Supplier 4: Newark; Supplier Part Number 4: 71J5270; Supplier 5: Mouser; Supplier Part Number 5: 579-MCP4021-103E/SN; Mounting Technology: Surface Mount; Code_JEDEC: MS-012; Code_IPC: SOIC127P600-8; ComponentLink1Description: Manufacturer URL; ComponentLink1URL: http://www.microchip.com/; ComponentLink2Description: Datasheet; ComponentLink2URL: http://ww1.microchip.com/downloads/en/DeviceDoc/21945e.pdf; ComponentLink3Description: Package Specification; ComponentLink3URL: http://www.microchip.com/stellent/groups/techpub_sg/documents/packagingspec/en012702.pdf
footprint SOIC-SN8_N (SOIC, 8-Leads, Body 4.9x3.8mm, Pitch 1.27mm, IPC Medium Density)
footprint SOIC-SN8_L (SOIC, 8-Leads, Body 4.9x3.8mm, Pitch 1.27mm, IPC High Density)
footprint SOIC-SN8_M (SOIC, 8-Leads, Body 4.9x3.8mm, Pitch 1.27mm, IPC Low Density)
pins: 1 VDD (power), 2 VSS (power), 3 A, 4 W, 5 ~{CS} (in), 6 B, 7 NC, 8 U/~{D} (in)

## MCP4021-202E/MS
designator U?
Low-Cost NV Digital POT with WiperLock Technology, 8-Pin MSOP, Extended Temperature; Manufacturer: Microchip; PartNumber: MCP4021-202E/MS; DatasheetVersion: revE, Dec-2006; PackageVersion: revBB, Aug-2009; PackageReference: MSOP-MS8; PackageDescription: 8-Lead Plastic Micro Small Outline Package (MS) [MSOP]; Supplier 1: Digi-Key; Supplier Part Number 1: MCP4021-202E/MS-ND; Supplier 2: Farnell; Supplier Part Number 2: 1840702; Supplier 3: Newark; Supplier Part Number 3: 71J5271; Supplier 4: Mouser; Supplier Part Number 4: 579-MCP4021-202E/MS; Mounting Technology: Surface Mount; ComponentLink1Description: Manufacturer URL; ComponentLink1URL: http://www.microchip.com/; ComponentLink2Description: Datasheet; ComponentLink2URL: http://ww1.microchip.com/downloads/en/DeviceDoc/21945e.pdf; ComponentLink3Description: Package Specification; ComponentLink3URL: http://www.microchip.com/stellent/groups/techpub_sg/documents/packagingspec/en012702.pdf
footprint MSOP-MS8_N (TSOP, 8-Leads, Body 3x3mm, Pitch 0.65mm, IPC Medium Density)
footprint MSOP-MS8_L (TSOP, 8-Leads, Body 3x3mm, Pitch 0.65mm, IPC High Density)
footprint MSOP-MS8_M (TSOP, 8-Leads, Body 3x3mm, Pitch 0.65mm, IPC Low Density)
pins: 1 VDD (power), 2 VSS (power), 3 A, 4 W, 5 ~{CS} (in), 6 B, 7 NC, 8 U/~{D} (in)

## MCP4021-202E/SN
designator U?
Low-Cost NV Digital POT with WiperLock Technology, 8-Pin SOIC 150mil, Extended Temperature; Manufacturer: Microchip; PartNumber: MCP4021-202E/SN; DatasheetVersion: revE, Dec-2006; PackageVersion: revBB, Aug-2009; PackageReference: SOIC-SN8; PackageDescription: 8-Lead Plastic Small Outline (SN) - Narrow, 3.90mm Body [SOIC]; Supplier 1: Digi-Key; Supplier Part Number 1: MCP4021-202E/SN-ND; Supplier 2: Farnell; Supplier Part Number 2: 1840703; Supplier 3: Newark; Supplier Part Number 3: 71J5272; Supplier 4: Mouser; Supplier Part Number 4: 579-MCP4021-202E/SN; Mounting Technology: Surface Mount; Code_JEDEC: MS-012; Code_IPC: SOIC127P600-8; ComponentLink1Description: Manufacturer URL; ComponentLink1URL: http://www.microchip.com/; ComponentLink2Description: Datasheet; ComponentLink2URL: http://ww1.microchip.com/downloads/en/DeviceDoc/21945e.pdf; ComponentLink3Description: Package Specification; ComponentLink3URL: http://www.microchip.com/stellent/groups/techpub_sg/documents/packagingspec/en012702.pdf
footprint SOIC-SN8_N (SOIC, 8-Leads, Body 4.9x3.8mm, Pitch 1.27mm, IPC Medium Density)
footprint SOIC-SN8_L (SOIC, 8-Leads, Body 4.9x3.8mm, Pitch 1.27mm, IPC High Density)
footprint SOIC-SN8_M (SOIC, 8-Leads, Body 4.9x3.8mm, Pitch 1.27mm, IPC Low Density)
pins: 1 VDD (power), 2 VSS (power), 3 A, 4 W, 5 ~{CS} (in), 6 B, 7 NC, 8 U/~{D} (in)

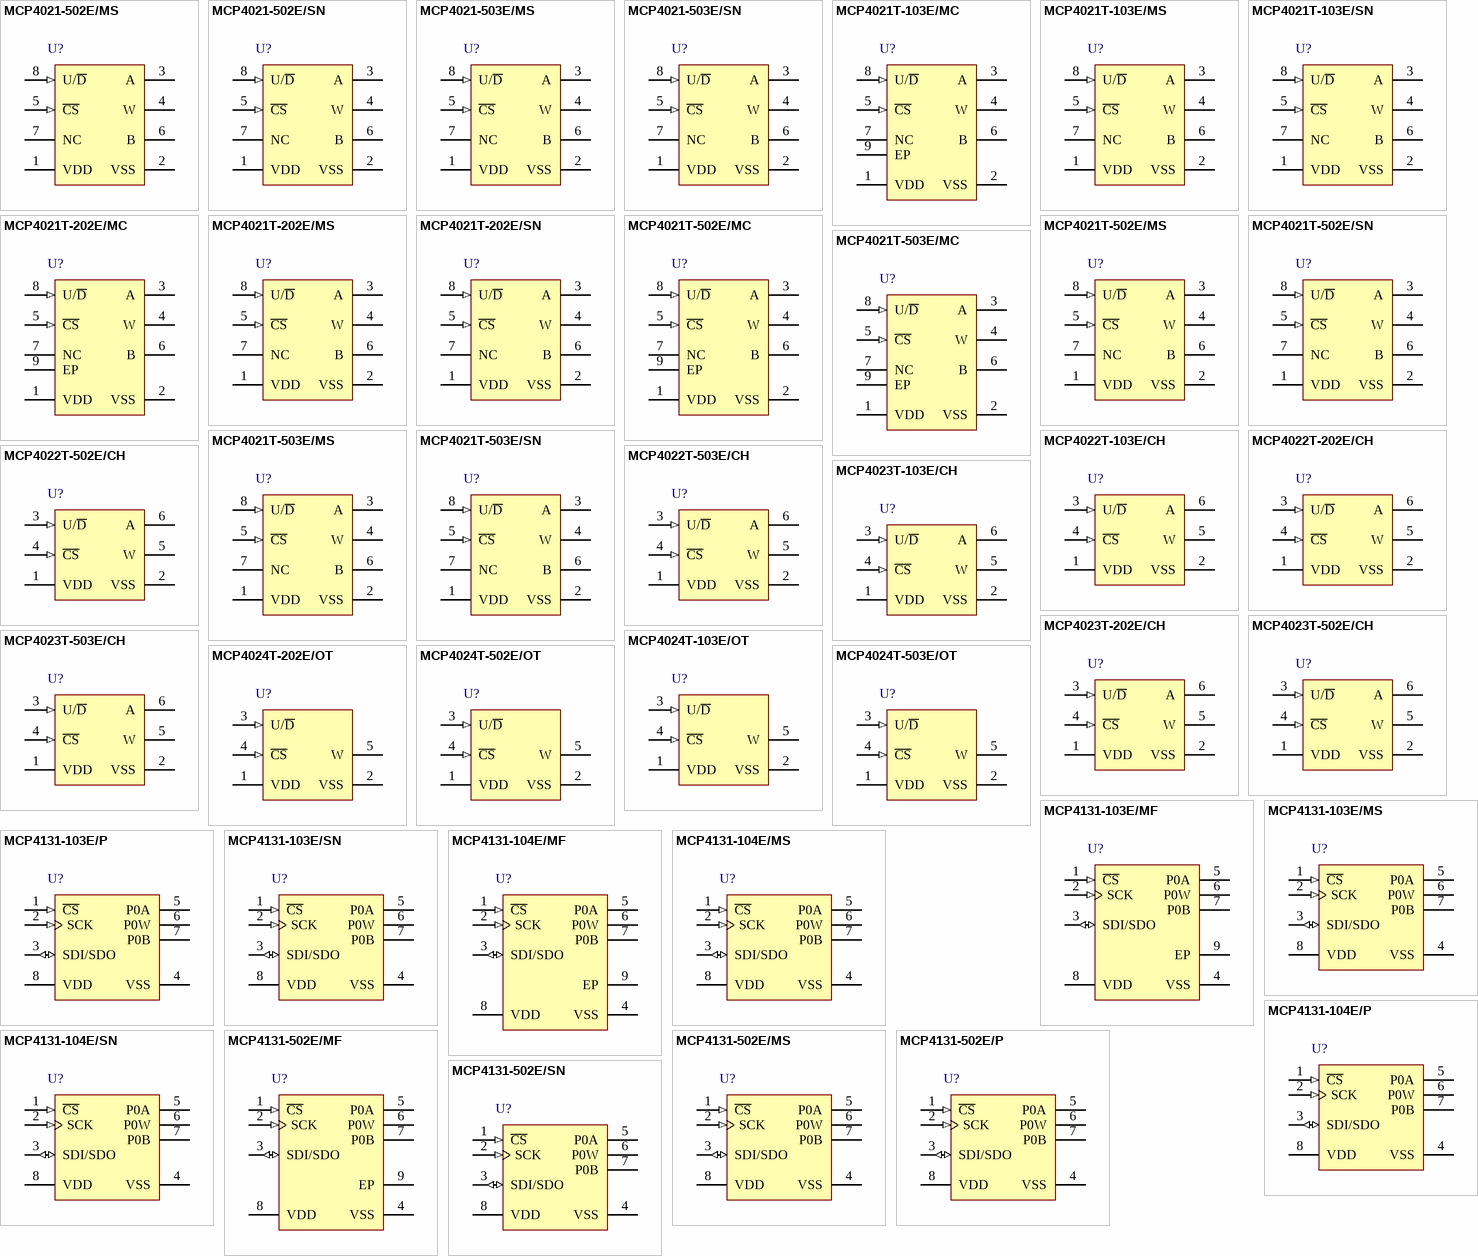
[diagram p9: symbols MCP4021-502E/MS to MCP4131-502E/SN]

## MCP4021-502E/MS
designator U?
Low-Cost NV Digital POT with WiperLock Technology, 8-Pin MSOP, Extended Temperature; Manufacturer: Microchip; PartNumber: MCP4021-502E/MS; DatasheetVersion: revE, Dec-2006; PackageVersion: revBB, Aug-2009; PackageReference: MSOP-MS8; PackageDescription: 8-Lead Plastic Micro Small Outline Package (MS) [MSOP]; Supplier 1: Digi-Key; Supplier Part Number 1: MCP4021-502E/MS-ND; Supplier 2: Farnell; Supplier Part Number 2: 1840743; Supplier 3: Newark; Supplier Part Number 3: 71J5273; Supplier 4: Mouser; Supplier Part Number 4: 579-MCP4021-502E/MS; Mounting Technology: Surface Mount; ComponentLink1Description: Manufacturer URL; ComponentLink1URL: http://www.microchip.com/; ComponentLink2Description: Datasheet; ComponentLink2URL: http://ww1.microchip.com/downloads/en/DeviceDoc/21945e.pdf; ComponentLink3Description: Package Specification; ComponentLink3URL: http://www.microchip.com/stellent/groups/techpub_sg/documents/packagingspec/en012702.pdf
footprint MSOP-MS8_N (TSOP, 8-Leads, Body 3x3mm, Pitch 0.65mm, IPC Medium Density)
footprint MSOP-MS8_L (TSOP, 8-Leads, Body 3x3mm, Pitch 0.65mm, IPC High Density)
footprint MSOP-MS8_M (TSOP, 8-Leads, Body 3x3mm, Pitch 0.65mm, IPC Low Density)
pins: 1 VDD (power), 2 VSS (power), 3 A, 4 W, 5 ~{CS} (in), 6 B, 7 NC, 8 U/~{D} (in)

## MCP4021-502E/SN
designator U?
Low-Cost NV Digital POT with WiperLock Technology, 8-Pin SOIC 150mil, Extended Temperature; Manufacturer: Microchip; PartNumber: MCP4021-502E/SN; DatasheetVersion: revE, Dec-2006; PackageVersion: revBB, Aug-2009; PackageReference: SOIC-SN8; PackageDescription: 8-Lead Plastic Small Outline (SN) - Narrow, 3.90mm Body [SOIC]; Supplier 1: Digi-Key; Supplier Part Number 1: MCP4021-502E/SN-ND; Supplier 2: Farnell; Supplier Part Number 2: 1332106; Supplier 3: Newark; Supplier Part Number 3: 34M7455; Supplier 4: Newark; Supplier Part Number 4: 71J5274; Supplier 5: Mouser; Supplier Part Number 5: 579-MCP4021-502E/SN; Mounting Technology: Surface Mount; Code_JEDEC: MS-012; Code_IPC: SOIC127P600-8; ComponentLink1Description: Manufacturer URL; ComponentLink1URL: http://www.microchip.com/; ComponentLink2Description: Datasheet; ComponentLink2URL: http://ww1.microchip.com/downloads/en/DeviceDoc/21945e.pdf; ComponentLink3Description: Package Specification; ComponentLink3URL: http://www.microchip.com/stellent/groups/techpub_sg/documents/packagingspec/en012702.pdf
footprint SOIC-SN8_N (SOIC, 8-Leads, Body 4.9x3.8mm, Pitch 1.27mm, IPC Medium Density)
footprint SOIC-SN8_L (SOIC, 8-Leads, Body 4.9x3.8mm, Pitch 1.27mm, IPC High Density)
footprint SOIC-SN8_M (SOIC, 8-Leads, Body 4.9x3.8mm, Pitch 1.27mm, IPC Low Density)
pins: 1 VDD (power), 2 VSS (power), 3 A, 4 W, 5 ~{CS} (in), 6 B, 7 NC, 8 U/~{D} (in)

## MCP4021-503E/MS
designator U?
Low-Cost NV Digital POT with WiperLock Technology, 8-Pin MSOP, Extended Temperature; Manufacturer: Microchip; PartNumber: MCP4021-503E/MS; DatasheetVersion: revE, Dec-2006; PackageVersion: revBB, Aug-2009; PackageReference: MSOP-MS8; PackageDescription: 8-Lead Plastic Micro Small Outline Package (MS) [MSOP]; Supplier 1: Digi-Key; Supplier Part Number 1: MCP4021-503E/MS-ND; Supplier 2: Farnell; Supplier Part Number 2: 1840716; Supplier 3: Newark; Supplier Part Number 3: 71J5275; Supplier 4: Mouser; Supplier Part Number 4: 579-MCP4021-503E/MS; Mounting Technology: Surface Mount; ComponentLink1Description: Manufacturer URL; ComponentLink1URL: http://www.microchip.com/; ComponentLink2Description: Datasheet; ComponentLink2URL: http://ww1.microchip.com/downloads/en/DeviceDoc/21945e.pdf; ComponentLink3Description: Package Specification; ComponentLink3URL: http://www.microchip.com/stellent/groups/techpub_sg/documents/packagingspec/en012702.pdf
footprint MSOP-MS8_N (TSOP, 8-Leads, Body 3x3mm, Pitch 0.65mm, IPC Medium Density)
footprint MSOP-MS8_L (TSOP, 8-Leads, Body 3x3mm, Pitch 0.65mm, IPC High Density)
footprint MSOP-MS8_M (TSOP, 8-Leads, Body 3x3mm, Pitch 0.65mm, IPC Low Density)
pins: 1 VDD (power), 2 VSS (power), 3 A, 4 W, 5 ~{CS} (in), 6 B, 7 NC, 8 U/~{D} (in)

## MCP4021-503E/SN
designator U?
Low-Cost NV Digital POT with WiperLock Technology, 8-Pin SOIC 150mil, Extended Temperature; Manufacturer: Microchip; PartNumber: MCP4021-503E/SN; DatasheetVersion: revE, Dec-2006; PackageVersion: revBB, Aug-2009; PackageReference: SOIC-SN8; PackageDescription: 8-Lead Plastic Small Outline (SN) - Narrow, 3.90mm Body [SOIC]; Supplier 1: Digi-Key; Supplier Part Number 1: MCP4021-503E/SN-ND; Supplier 2: Farnell; Supplier Part Number 2: 1840717; Supplier 3: Newark; Supplier Part Number 3: 71J5276; Supplier 4: Mouser; Supplier Part Number 4: 579-MCP4021-503E/SN; Mounting Technology: Surface Mount; Code_JEDEC: MS-012; Code_IPC: SOIC127P600-8; ComponentLink1Description: Manufacturer URL; ComponentLink1URL: http://www.microchip.com/; ComponentLink2Description: Datasheet; ComponentLink2URL: http://ww1.microchip.com/downloads/en/DeviceDoc/21945e.pdf; ComponentLink3Description: Package Specification; ComponentLink3URL: http://www.microchip.com/stellent/groups/techpub_sg/documents/packagingspec/en012702.pdf
footprint SOIC-SN8_N (SOIC, 8-Leads, Body 4.9x3.8mm, Pitch 1.27mm, IPC Medium Density)
footprint SOIC-SN8_L (SOIC, 8-Leads, Body 4.9x3.8mm, Pitch 1.27mm, IPC High Density)
footprint SOIC-SN8_M (SOIC, 8-Leads, Body 4.9x3.8mm, Pitch 1.27mm, IPC Low Density)
pins: 1 VDD (power), 2 VSS (power), 3 A, 4 W, 5 ~{CS} (in), 6 B, 7 NC, 8 U/~{D} (in)

## MCP4021T-103E/MC
designator U?
Low-Cost NV Digital POT with WiperLock Technology, 8-Pin DFN, Extended Temperature, Tape and Reel; Manufacturer: Microchip; PartNumber: MCP4021T-103E/MC; DatasheetVersion: revE, Dec-2006; PackageVersion: revBB, Aug-2009; PackageReference: DFN-MC8; PackageDescription: 8-Lead Plastic Dual Flat, No Lead Package (MC) - 2x3x0.9mm Body [DFN]; Supplier 1: Digi-Key; Supplier Part Number 1: MCP4021T-103E/MCTR-ND; Supplier 2: Digi-Key; Supplier Part Number 2: MCP4021T-103E/MCCT-ND; Supplier 3: Digi-Key; Supplier Part Number 3: MCP4021T-103E/MCDKR-ND; Supplier 4: Newark; Supplier Part Number 4: 64J4024; Supplier 5: Mouser; Supplier Part Number 5: 579-MCP4021T-103E/MC; Mounting Technology: Surface Mount; ComponentLink1Description: Manufacturer URL; ComponentLink1URL: http://www.microchip.com/; ComponentLink2Description: Datasheet; ComponentLink2URL: http://ww1.microchip.com/downloads/en/DeviceDoc/21945e.pdf; ComponentLink3Description: Package Specification; ComponentLink3URL: http://www.microchip.com/stellent/groups/techpub_sg/documents/packagingspec/en012702.pdf
footprint DFN-MC8 (SON, 8-Leads, Body 2x3mm, Pitch 0.5mm, Microchip Recommended)
pins: 1 VDD (power), 2 VSS (power), 3 A, 4 W, 5 ~{CS} (in), 6 B, 7 NC, 8 U/~{D} (in), 9 EP

## MCP4021T-103E/MS
designator U?
Low-Cost NV Digital POT with WiperLock Technology, 8-Pin MSOP, Extended Temperature, Tape and Reel; Manufacturer: Microchip; PartNumber: MCP4021T-103E/MS; DatasheetVersion: revE, Dec-2006; PackageVersion: revBB, Aug-2009; PackageReference: MSOP-MS8; PackageDescription: 8-Lead Plastic Micro Small Outline Package (MS) [MSOP]; Supplier 1: Digi-Key; Supplier Part Number 1: MCP4021T-103E/MS-ND; Supplier 2: Mouser; Supplier Part Number 2: 579-MCP4021T-103E/MS; Mounting Technology: Surface Mount; ComponentLink1Description: Manufacturer URL; ComponentLink1URL: http://www.microchip.com/; ComponentLink2Description: Datasheet; ComponentLink2URL: http://ww1.microchip.com/downloads/en/DeviceDoc/21945e.pdf; ComponentLink3Description: Package Specification; ComponentLink3URL: http://www.microchip.com/stellent/groups/techpub_sg/documents/packagingspec/en012702.pdf
footprint MSOP-MS8_N (TSOP, 8-Leads, Body 3x3mm, Pitch 0.65mm, IPC Medium Density)
footprint MSOP-MS8_L (TSOP, 8-Leads, Body 3x3mm, Pitch 0.65mm, IPC High Density)
footprint MSOP-MS8_M (TSOP, 8-Leads, Body 3x3mm, Pitch 0.65mm, IPC Low Density)
pins: 1 VDD (power), 2 VSS (power), 3 A, 4 W, 5 ~{CS} (in), 6 B, 7 NC, 8 U/~{D} (in)

## MCP4021T-103E/SN
designator U?
Low-Cost NV Digital POT with WiperLock Technology, 8-Pin SOIC 150mil, Extended Temperature, Tape and Reel; Manufacturer: Microchip; PartNumber: MCP4021T-103E/SN; DatasheetVersion: revE, Dec-2006; PackageVersion: revBB, Aug-2009; PackageReference: SOIC-SN8; PackageDescription: 8-Lead Plastic Small Outline (SN) - Narrow, 3.90mm Body [SOIC]; Supplier 1: Digi-Key; Supplier Part Number 1: MCP4021T-103E/SN-ND; Supplier 2: Mouser; Supplier Part Number 2: 579-MCP4021T-103E/SN; Mounting Technology: Surface Mount; Code_JEDEC: MS-012; Code_IPC: SOIC127P600-8; ComponentLink1Description: Manufacturer URL; ComponentLink1URL: http://www.microchip.com/; ComponentLink2Description: Datasheet; ComponentLink2URL: http://ww1.microchip.com/downloads/en/DeviceDoc/21945e.pdf; ComponentLink3Description: Package Specification; ComponentLink3URL: http://www.microchip.com/stellent/groups/techpub_sg/documents/packagingspec/en012702.pdf
footprint SOIC-SN8_N (SOIC, 8-Leads, Body 4.9x3.8mm, Pitch 1.27mm, IPC Medium Density)
footprint SOIC-SN8_L (SOIC, 8-Leads, Body 4.9x3.8mm, Pitch 1.27mm, IPC High Density)
footprint SOIC-SN8_M (SOIC, 8-Leads, Body 4.9x3.8mm, Pitch 1.27mm, IPC Low Density)
pins: 1 VDD (power), 2 VSS (power), 3 A, 4 W, 5 ~{CS} (in), 6 B, 7 NC, 8 U/~{D} (in)

## MCP4021T-202E/MC
designator U?
Low-Cost NV Digital POT with WiperLock Technology, 8-Pin DFN, Extended Temperature, Tape and Reel; Manufacturer: Microchip; PartNumber: MCP4021T-202E/MC; DatasheetVersion: revE, Dec-2006; PackageVersion: revBB, Aug-2009; PackageReference: DFN-MC8; PackageDescription: 8-Lead Plastic Dual Flat, No Lead Package (MC) - 2x3x0.9mm Body [DFN]; Supplier 1: Digi-Key; Supplier Part Number 1: MCP4021T-202E/MCTR-ND; Supplier 2: Digi-Key; Supplier Part Number 2: MCP4021T-202E/MCCT-ND; Supplier 3: Digi-Key; Supplier Part Number 3: MCP4021T-202E/MCDKR-ND; Supplier 4: Mouser; Supplier Part Number 4: 579-MCP4021T-202E/MC; Mounting Technology: Surface Mount; ComponentLink1Description: Manufacturer URL; ComponentLink1URL: http://www.microchip.com/; ComponentLink2Description: Datasheet; ComponentLink2URL: http://ww1.microchip.com/downloads/en/DeviceDoc/21945e.pdf; ComponentLink3Description: Package Specification; ComponentLink3URL: http://www.microchip.com/stellent/groups/techpub_sg/documents/packagingspec/en012702.pdf
footprint DFN-MC8 (SON, 8-Leads, Body 2x3mm, Pitch 0.5mm, Microchip Recommended)
pins: 1 VDD (power), 2 VSS (power), 3 A, 4 W, 5 ~{CS} (in), 6 B, 7 NC, 8 U/~{D} (in), 9 EP

## MCP4021T-202E/MS
designator U?
Low-Cost NV Digital POT with WiperLock Technology, 8-Pin MSOP, Extended Temperature, Tape and Reel; Manufacturer: Microchip; PartNumber: MCP4021T-202E/MS; DatasheetVersion: revE, Dec-2006; PackageVersion: revBB, Aug-2009; PackageReference: MSOP-MS8; PackageDescription: 8-Lead Plastic Micro Small Outline Package (MS) [MSOP]; Supplier 1: Digi-Key; Supplier Part Number 1: MCP4021T-202E/MS-ND; Supplier 2: Mouser; Supplier Part Number 2: 579-MCP4021T-202E/MS; Mounting Technology: Surface Mount; ComponentLink1Description: Manufacturer URL; ComponentLink1URL: http://www.microchip.com/; ComponentLink2Description: Datasheet; ComponentLink2URL: http://ww1.microchip.com/downloads/en/DeviceDoc/21945e.pdf; ComponentLink3Description: Package Specification; ComponentLink3URL: http://www.microchip.com/stellent/groups/techpub_sg/documents/packagingspec/en012702.pdf
footprint MSOP-MS8_N (TSOP, 8-Leads, Body 3x3mm, Pitch 0.65mm, IPC Medium Density)
footprint MSOP-MS8_L (TSOP, 8-Leads, Body 3x3mm, Pitch 0.65mm, IPC High Density)
footprint MSOP-MS8_M (TSOP, 8-Leads, Body 3x3mm, Pitch 0.65mm, IPC Low Density)
pins: 1 VDD (power), 2 VSS (power), 3 A, 4 W, 5 ~{CS} (in), 6 B, 7 NC, 8 U/~{D} (in)